# EAGLE library part L6981N50DR (library L6981N50DR)
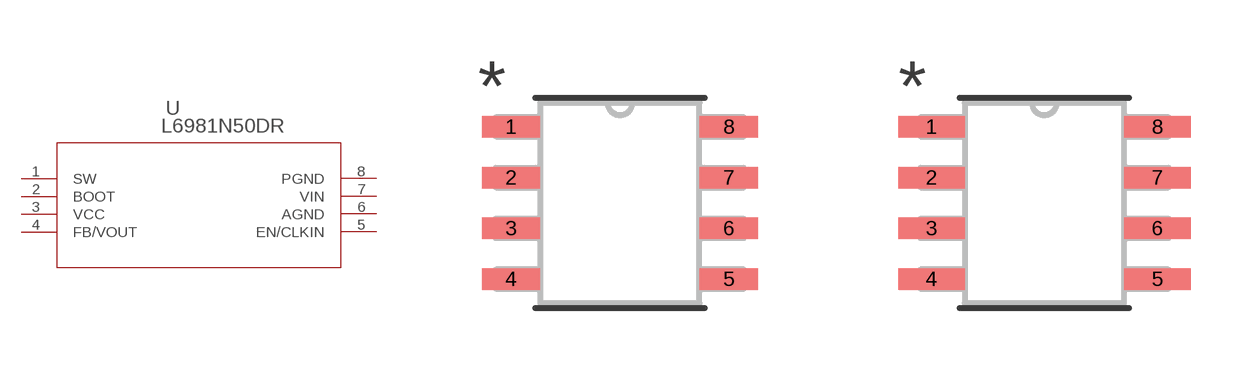
[diagram p0: symbol with the pads of SO8L_L6981N33DR_STM; footprints SO8L_L6981N33DR_STM, SO8L_L6981N33DR_STM-M]

Designator prefix U

## L6981N50DRSO8L_L6981N33DR_STM (Copyright: Copyright (C) 2024 Ultra Librarian. All rights reserved.; Manufacturer_Part_Number: L6981N50DR; Mfr_Name: STMicroelectronics)  [SO8L_L6981N33DR_STM]
1  SW
2  BOOT  pas
3  VCC  pwr
4  FB/VOUT  out
5  EN/CLKIN  in
6  AGND  pas
7  VIN  pwr
8  PGND  pas

## L6981N50DRSO8L_L6981N33DR_STM-M (Copyright: Copyright (C) 2024 Ultra Librarian. All rights reserved.; Manufacturer_Part_Number: L6981N50DR; Mfr_Name: STMicroelectronics)  [SO8L_L6981N33DR_STM-M]
Pads as for SO8L_L6981N33DR_STM

## L6981N50DRSO8L_L6981N33DR_STM-L (Copyright: Copyright (C) 2024 Ultra Librarian. All rights reserved.; Manufacturer_Part_Number: L6981N50DR; Mfr_Name: STMicroelectronics)  [SO8L_L6981N33DR_STM-L]
Pads as for SO8L_L6981N33DR_STM

## Footprint SO8L_L6981N33DR_STM (pad centres in mm)
smd 1.46 x 0.533: 1 -2.724,1.905; 2 -2.724,0.635; 3 -2.724,-0.635; 4 -2.724,-1.905; 5 2.724,-1.905; 6 2.724,-0.635; 7 2.724,0.635; 8 2.724,1.905

## Footprint SO8L_L6981N33DR_STM-M (pad centres in mm)
smd 1.664 x 0.533: 1 -2.826,1.905; 2 -2.826,0.635; 3 -2.826,-0.635; 4 -2.826,-1.905; 5 2.826,-1.905; 6 2.826,-0.635; 7 2.826,0.635; 8 2.826,1.905

## Footprint SO8L_L6981N33DR_STM-L (pad centres in mm)
smd 1.219 x 0.483: 1 -2.642,1.905; 2 -2.642,0.635; 3 -2.642,-0.635; 4 -2.642,-1.905; 5 2.642,-1.905; 6 2.642,-0.635; 7 2.642,0.635; 8 2.642,1.905